# Altium schematic symbol library LM3940ISX-3P3NOPB.SchLib: 2 symbols
Pins are listed as number, name and electrical type; pins without a type are passive.

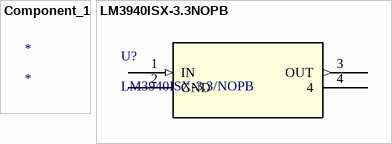
[diagram p0: symbols Component_1 to LM3940ISX-3.3NOPB]

## Component_1
designator *

## LM3940ISX-3.3NOPB
designator U?, comment LM3940ISX-3.3/NOPB
1-A, low-dropout voltage regulator for 5-V to 3.3-V conversion 3-DDPAK/TO-263 -40 to 125; Manufacturer_Name: Texas Instruments; Type: LM3940IS-3.3; Copyright: Copyright (C) 2025 Ultra Librarian. All rights reserved.; Manufacturer_Part_Number: LM3940ISX-3.3/NOPB; Datasheet: https://www.ti.com/lit/gpn/lm3940; RefDes: RefDes
footprint TS3B
pins: 1 IN (in), 2 GND, 3 OUT (out), 4